# Altium footprint library TesisLibPCB.PcbLib: 5 footprints
Each footprint in its own frame and in the unit in brackets; x right, y up, seen from the top. Pads: shape width x height; smd on the part's side, far side on the other; paste and mask are expansions set on the pad; w line width, h text height; cw(c..) or ccw(c..) is an arc to the next point about the centre after c.
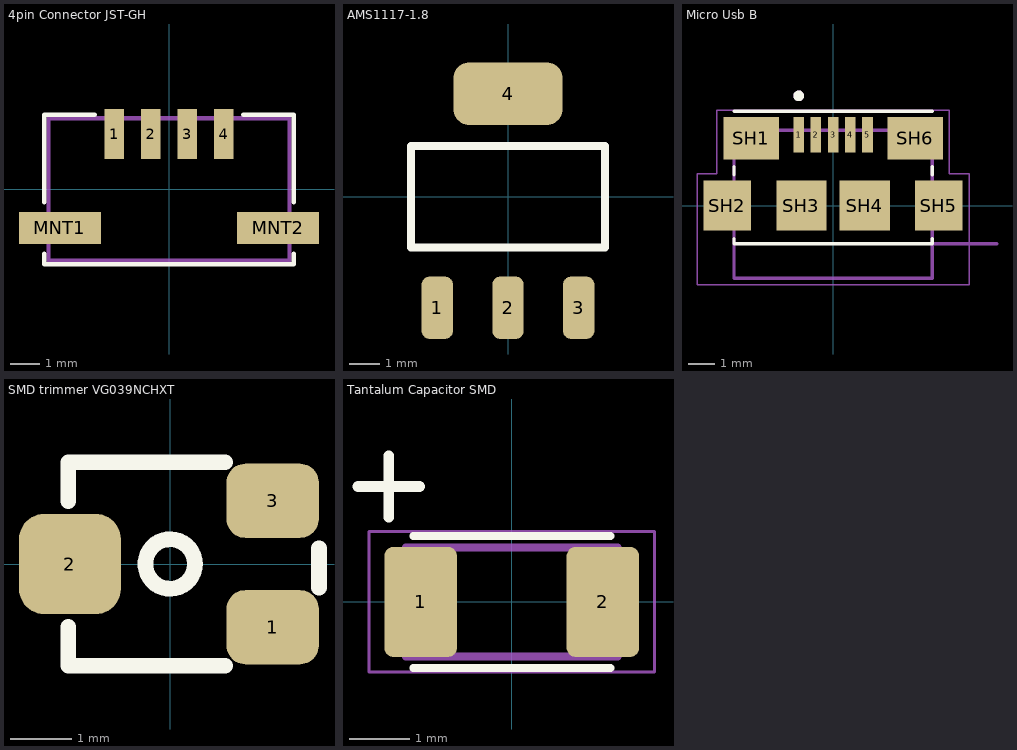
[diagram p0: the footprints below, top view; thin cyan lines are the x and y axes]

## 4pin Connector JST-GH [mil] "CONN HEADER SMD R/A 4POS 1.25MM / JST"
pads (6):
  rect 26x67 smd: 1(-73.82,73.85) 2(-24.61,73.85) 3(24.61,73.85) 4(73.82,73.85)
  rect 110x43 smd: MNT1(-146.65,-52.14) MNT2(146.65,-52.14)
Top Overlay:
  lines w6: -168,-87 -168,-101 168,-101 168,-87 ; -168,-18 -168,100 -100,100 ; 100,100 168,100 168,-18
Mechanical 13:
  lines w6: -162,-96 -162,95 162,95 162,-96 -162,-96
3D body "step_temp.STEP": height 167.32, standoff 0, extent -162.4,-80.63 162.4,110.32

## AMS1117-1.8 [mil] "Voltage Regulator AMS1117 SMD"
pads (4):
  rrect50% 40x80 smd: 1(-90.5,-142) 2(0,-142) 3(90.5,-142)
  rrect50% 140x80 smd: 4(0,132)
Top Overlay:
  lines w10: -124,-65 124,-65 124,65 -124,65 -124,-65
3D body "AMS1117-1.8-TR.STEP": height 71, standoff 0, extent -128,-137.75 128,137.75

## Micro Usb B [mm] "Surface Mount"
pads (11):
  rect 0.4x1.35 smd: 1(-1.3,2.675) 2(-0.65,2.675) 3(0,2.675) 4(0.65,2.675) 5(1.3,2.675)
  rect 2.1x1.6 smd: SH1(-3.1,2.55) SH6(3.1,2.55)
  rect 1.8x1.9 smd: SH2(-4,0) SH5(4,0)
  rect 1.9x1.9 smd: SH3(-1.2,0) SH4(1.2,0)
Top Overlay:
  circle w0.2: c-1.3,4.15 r0.1
  lines w0.127: -3.75,-1.25 -3.75,-1.45 3.75,-1.45 3.75,-1.25 ; -3.75,1.17 -3.75,1.47 ; -3.75,3.57 3.75,3.57 ; 3.75,1.17 3.75,1.47
Mechanical 13:
  circle w0.2: c-1.3,4.15 r0.1
  lines w0.127: 6.2,-1.45 3.75,-1.45 ; 3.75,-1.45 3.75,2.85 -3.75,2.85 -3.75,-2.75 3.75,-2.75 3.75,-1.45
  text "PCB EDGE" at 5.553,-1.301 h0.61
Mechanical 15:
  lines w0.05: -5.15,-3 -5.15,1.2 -4.4,1.2 -4.4,3.6 4.4,3.6 4.4,1.2 5.15,1.2 5.15,-3 -5.15,-3
3D body "step_temp.STEP": height 2.91, standoff -0.04, extent -4.037,-2.413 4.037,3.187

## SMD trimmer VG039NCHXT [mil] "VG039NCHXT B503"
pads (3):
  rrect50% 58.9x47.36 smd: 1(65.41,-40.34) 3(65.41,40.34)
  rrect50% 65x64 smd: 2(-63.98,0)
Top Overlay:
  circle w10: c0,0 r15.81
  lines w10: -65,-40 -65,-65 35,-65 ; -65,40 -65,65 35,65 ; 95,-15 95,10
3D body "TC33X-2-103E.STEP": height 50.31, standoff 3.06, extent -69.8,-59.06 79.8,59.06

## Tantalum Capacitor SMD [mm] "CASE-A-3216-18 / 10uF 16V"
pads (2):
  rrect25% 1.2x1.82 smd: 1(-1.505,0) 2(1.505,0)
Top Overlay:
  lines w0.127: -1.63,-1.09 1.63,-1.09 ; -1.63,1.09 1.63,1.09
  lines w0.178: -2.54,1.905 -1.524,1.905 ; -2.032,1.397 -2.032,2.413
Mechanical 13:
  lines w0.127: -1.75,-0.9 -1.75,0.9 1.75,0.9 1.75,-0.9 -1.75,-0.9
Mechanical 15:
  lines w0.05: -2.36,-1.16 -2.36,1.16 2.36,1.16 2.36,-1.16 -2.36,-1.16
3D body "step_temp.STEP": height 1.8, standoff 0, extent -1.6,-0.8 1.6,0.8